# Altium schematic symbol library SM712-02HTG.SchLib: 1 symbol
Pins are listed as number, name and electrical type; pins without a type are passive.

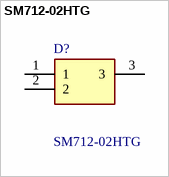
[diagram p0: symbol SM712-02HTG]

## SM712-02HTG
designator D?
31V, 19V Clamp 19A (8/20s) Ipp Tvs Diode Surface Mount SOT-23-3; Manufacturer_Name: LITTELFUSE; Geometry.Height: 1.12mm; Manufacturer_Part_Number: SM712-02HTG; Mouser Part Number: 576-SM712-02HTG; Mouser Price/Stock: https://www.mouser.co.uk/ProductDetail/Littelfuse/SM712-02HTG?qs=aGgfWYEhH7lQgBVBPCUDkw%3D%3D; Arrow Part Number: SM712-02HTG; Arrow Price/Stock: https://www.arrow.com/en/products/sm712-02htg/littelfuse?utm_currency=USD&region=nac; Datasheet Link: https://www.littelfuse.com/media?resourcetype=datasheets&itemid=a4019802-ff62-41ff-bf66-295f97422f81&filename=littelfuse-tvs-diode-array-sm712-datasheet
footprint SM71202HTG
pins: 1, 2, 3